# EAGLE library part 61003421121 (library Wurth_Elektronik_Electromechanic_Board_to_Board_Connectors_rev16a)
WR-PHD 2.54mm Dual SMT Pin Header, 34 Pins =>Code : Con_BTB_PHD_2.54_2_61003421121 <http://katalog.we-online.de/media/images/eican/Con_BTB_PHD_2.54_2_6100xx21121_pf2.jpg> Details see: http://katalog.we-online.de/en/em/610_0xx_211_21 Created 2014-05-29, Karrer Zheng 2014 (C) Würth Elektronik
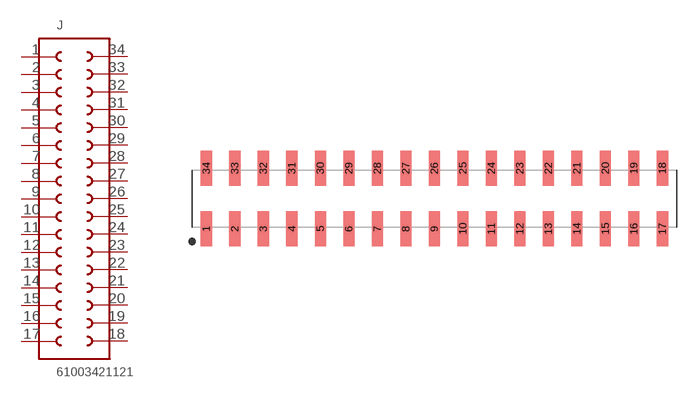
[diagram p86: symbol with the pads of 61003421121; footprint 61003421121]

Designator prefix J

## 61003421121  [61003421121]
1  1  pas
2  2  pas
3  3  pas
4  4  pas
5  5  pas
6  6  pas
7  7  pas
8  8  pas
9  9  pas
10  10  pas
11  11  pas
12  12  pas
13  13  pas
14  14  pas
15  15  pas
16  16  pas
17  17  pas
18  18  pas
19  19  pas
20  20  pas
21  21  pas
22  22  pas
23  23  pas
24  24  pas
25  25  pas
26  26  pas
27  27  pas
28  28  pas
29  29  pas
30  30  pas
31  31  pas
32  32  pas
33  33  pas
34  34  pas

## Footprint 61003421121 (pad centres in mm)
WR-PHD 2.54mm Dual SMT Pin Header, 34 Pins
smd 1 x 3.1: 1 -20.32,-2.7; 2 -17.78,-2.7; 3 -15.24,-2.7; 4 -12.7,-2.7; 5 -10.16,-2.7; 6 -7.62,-2.7; 7 -5.08,-2.7; 8 -2.54,-2.7; 9 0,-2.7; 10 2.54,-2.7; 11 5.08,-2.7; 12 7.62,-2.7; 13 10.16,-2.7; 14 12.7,-2.7; 15 15.24,-2.7; 16 17.78,-2.7; 17 20.32,-2.7; 18 20.32,2.7; 19 17.78,2.7; 20 15.24,2.7; 21 12.7,2.7; 22 10.16,2.7; 23 7.62,2.7; 24 5.08,2.7; 25 2.54,2.7; 26 0,2.7; 27 -2.54,2.7; 28 -5.08,2.7; 29 -7.62,2.7; 30 -10.16,2.7; 31 -12.7,2.7; 32 -15.24,2.7; 33 -17.78,2.7; 34 -20.32,2.7